# Altium footprint library EIGHT_29.PcbLib: 57 footprints (part 2 of 4)
Each footprint in its own frame and in the unit in brackets; x right, y up, seen from the top. Pads: shape width x height; smd on the part's side, far side on the other; paste and mask are expansions set on the pad; w line width, h text height; cw(c..) or ccw(c..) is an arc to the next point about the centre after c.
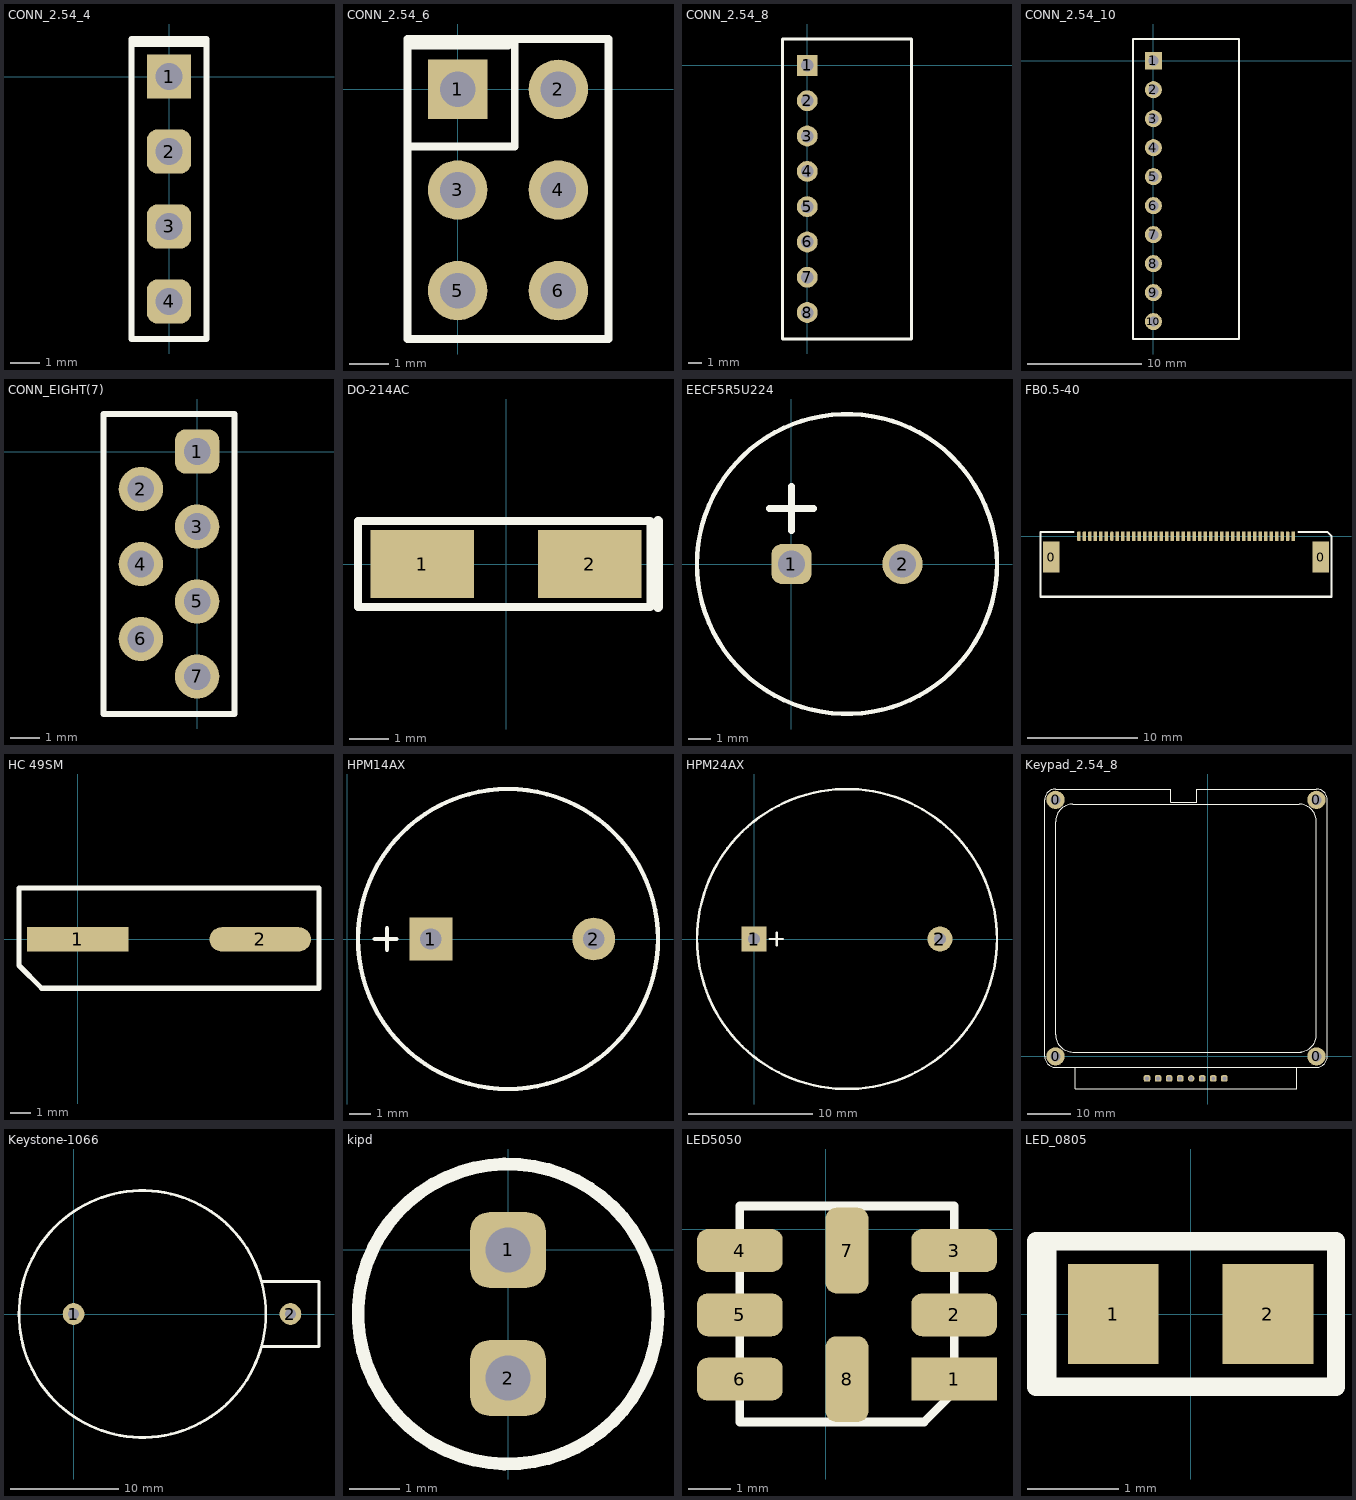
[diagram p1: the footprints below, top view; thin cyan lines are the x and y axes]

## CONN_2.54_4 [mm]
pads (4):
  rect 1.5x1.5 hole 0.9: 1(0,0)
  rrect50% 1.5x1.5 hole 0.9: 2(0,-2.54) 3(0,-5.08) 4(0,-7.62)
Top Overlay:
  lines w0.2: -1.27,1.1 1.27,1.1 ; -1.27,-8.89 -1.27,1.27 1.27,1.27 1.27,-8.89 -1.27,-8.89

## CONN_2.54_6 [mm]
pads (6):
  rect 1.5x1.5 hole 0.9: 1(0,0)
  round 1.5 hole 0.9: 2(2.54,0) 3(0,-2.54) 4(2.54,-2.54) 5(0,-5.08) 6(2.54,-5.08)
Top Overlay:
  lines w0.2: -1.27,-1.44 1.44,-1.44 1.44,1.27 ; -1.27,1.1 1.27,1.1 ; -1.27,-6.3 -1.27,1.27 3.81,1.27 3.81,-6.3 -1.27,-6.3

## CONN_2.54_8 [mm]
pads (8):
  rect 1.5x1.5 hole 0.9: 1(0,0)
  round 1.5 hole 0.9: 2(0,-2.54) 3(0,-5.08) 4(0,-7.62) 5(0,-10.16) 6(0,-12.7) 7(0,-15.24) 8(0,-17.78)
Top Overlay:
  lines w0.2: -1.778,-19.685 -1.778,1.905 7.493,1.905 7.493,-19.685 -1.778,-19.685

## CONN_2.54_10 [mm]
pads (10):
  rect 1.5x1.5 hole 0.9: 1(0,0)
  round 1.5 hole 0.9: 2(0,-2.54) 3(0,-5.08) 4(0,-7.62) 5(0,-10.16) 6(0,-12.7) 7(0,-15.24) 8(0,-17.78) 9(0,-20.32) 10(0,-22.86)
Top Overlay:
  lines w0.2: -1.778,-24.384 7.493,-24.384 7.493,1.905 -1.778,1.905 -1.778,-24.384

## CONN_EIGHT(7) [mm] "7pins spec connector"
pads (7):
  rrect50% 1.5x1.5 hole 0.9: 1(0,0)
  round 1.5 hole 0.9: 2(-1.905,-1.27) 3(0,-2.54) 4(-1.905,-3.81) 5(0,-5.08) 6(-1.905,-6.35) 7(0,-7.62)
Top Overlay:
  lines w0.2: -3.175,-8.89 1.27,-8.89 1.27,1.27 -3.175,1.27 -3.175,-8.89

## DO-214AC [mm]
pads (2):
  rect 2.65x1.75 smd: 1(-2.15,0) 2(2.15,0)
Top Overlay:
  lines w0.2: -3.8,-1.1 -3.8,-0.5 -3.8,1.1 3.7,1.1 3.7,0.65 3.7,-0.65 3.7,-1.1 -3.8,-1.1
  lines w0.254: 3.9,-1.1 3.9,1.1

## EECF5R5U224 [mm] "EECF5R5U224 ultracapacitor"
height 7.6
pads (2):
  rrect50% 1.8x1.8 hole 1.2: 1(0,0)
  round 1.8 hole 1.2: 2(5,0)
Top Overlay:
  circle w0.2: c2.5,0 r6.75
  lines w0.3: -1,2.5 1,2.5 ; 0,1.5 0,3.5

## FB0.5-40 [mm] "FB0.5-40"
pads (42):
  rect 1.5x2.8 smd: 0(8.7,-1.9) 0(33.2,-1.9)
  rect 0.3x0.9 smd: 1(30.7,0)
  rrect50% 0.3x0.9 smd: 2(30.2,0) 3(29.7,0) 4(29.2,0) 5(28.7,0) 6(28.2,0) 7(27.7,0) 8(27.2,0) 9(26.7,0) 10(26.2,0) 11(25.7,0) 12(25.2,0) 13(24.7,0) 14(24.2,0) 15(23.7,0) 16(23.2,0) 17(22.7,0) 18(22.2,0) 19(21.7,0) 20(21.2,0) 21(20.7,0) 22(20.2,0) 23(19.7,0) 24(19.2,0) 25(18.7,0) 26(18.2,0) 27(17.7,0) 28(17.2,0) 29(16.7,0) 30(16.2,0) 31(15.7,0) 32(15.2,0) 33(14.7,0) 35(13.7,0) 36(13.2,0) 37(12.7,0) 38(12.2,0) 39(11.7,0) 40(11.2,0)
  oval 0.3x0.9 smd: 34(14.2,0)
Top Overlay:
  lines w0.2: 7.7,0.3 7.7,-5.5 34.2,-5.5 34.2,0 33.8,0.4 31.2,0.4 ; 7.7,0.4 10.7,0.4

## HC 49SM [mm]
pads (2):
  rect 5x1.2 smd: 1(0,0)
  oval 5x1.2 smd: 2(9,0)
Top Overlay:
  lines w0.254: -2.9,-1.291 -1.778,-2.413 8.128,-2.413 11.9,-2.413 11.9,2.54 1.27,2.54 -2.9,2.54 -2.9,-1.291

## HPM14AX [mm]
height 8
pads (2):
  rect 2x2 hole 1: 1(3.9,0)
  round 2 hole 1: 2(11.5,0)
Top Overlay:
  circle w0.2: c7.5,0 r7
  lines w0.2: 1.284,0 2.3,0 ; 1.85,-0.508 1.85,0.508

## HPM24AX [mm]
pads (2):
  rect 2x2 hole 1: 1(0,0)
  round 2 hole 1: 2(15,0)
Top Overlay:
  circle w0.2: c7.5,0 r12.1
  lines w0.2: 1.284,0 2.3,0 ; 1.85,-0.508 1.85,0.508

## Keypad_2.54_8 [mm]
pads (12):
  round 4.2 hole 2.3: 0(-35,0) 0(-35,59) 0(25,0) 0(25,59)
  rrect50% 1.5x1.5 hole 0.9: 1(-13.97,-5.08) 2(-11.43,-5.08) 3(-8.89,-5.08) 4(-6.35,-5.08) 6(-1.27,-5.08) 7(1.27,-5.08) 8(3.81,-5.08)
  round 1.5 hole 0.9: 5(-3.81,-5.08)
Top Overlay:
  lines w0.254: -30.5,-2.5 -30.5,-7.5 -17,-7.5 20.5,-7.5 20.5,-2.5 ; 21,1 ccw(c21,5) 25,5 25,54 ccw(c21,54) 21,58 -31,58 ccw(c-31,54) -35,54 -35,5 ccw(c-31,5) -31,1 21.5,1 ; -37.5,0 ccw(c-35,0) -35,-2.5 25,-2.5 ccw(c25,0) 27.5,0 27.5,59 ccw(c25,59) 25,61.5 -2.5,61.5 -2.5,58.5 -8.5,58.5 -8.5,61.5 -35,61.5 ccw(c-35,59) -37.5,59 -37.5,0

## Keystone-1066 [mm] "Bat holder"
height 10
pads (2):
  round 2 hole 1: 1(0,0) 2(20,0)
Top Overlay:
  circle w0.254: c6.35,0 r11.38
  lines w0.254: 17.323,-3 22.632,-3 22.632,3 17.323,3

## kipd [mm]
pads (2):
  rrect50% 1.5x1.5 hole 0.9: 1(0,0) 2(0,-2.54)
Top Overlay:
  circle w0.254: c0,-1.27 r2.976

## LED5050 [mm] "LED5050"
height 1.6
pads (8):
  rect 2x1 smd: 1(3,-3.5)
  rrect50% 2x1 smd: 2(3,-2) 3(3,-0.5) 4(-2,-0.5) 5(-2,-2) 6(-2,-3.5)
  rrect50% 1x2 smd: 7(0.5,-0.5) 8(0.5,-3.5)
Top Overlay:
  lines w0.2: -2,-4.5 2.3,-4.5 3,-3.8 3,0.54 -2,0.54 -2,-4.5

## LED_0805 [mm]
pads (2):
  rect 1x1.1 smd: 1(-0.85,0) 2(0.85,0)
Top Overlay:
  lines w0.2: -1.7,-0.8 -1.7,-0.017 -1.7,0.8 1.6,0.8 1.6,-0.8 -1.7,-0.8
  lines w0.254: -1.6,-0.7 -1.6,0.7